# Altium schematic symbol library avago.SchLib: 3 symbols
Pins are listed as number, name and electrical type; pins without a type are passive.

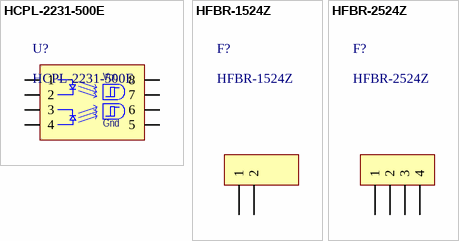
[diagram p0: symbols HCPL-2231-500E to HFBR-2524Z]

## HCPL-2231-500E
designator U?
High Speed Optocouplers
footprint 8-PIN Gull Wing (Gull Wing Package)
pins: 1, 2, 3, 4, 5, 6, 7, 8
text: Vcc; Gnd

## HFBR-1524Z
designator F?
ST Transmitter
footprint HFBR-x524Z (Fiber ST TxRx)
pins: 1, 2

## HFBR-2524Z
designator F?
ST Receiver
footprint HFBR-x524Z (Fiber ST TxRx)
pins: 1, 2, 3, 4